# Altium schematic symbol library Reference_Capacitors.SchLib: 1 symbol
Pins are listed as number, name and electrical type; pins without a type are passive.

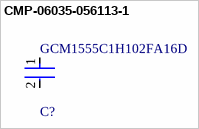
[diagram p0: symbol CMP-06035-056113-1]

## CMP-06035-056113-1
designator C?, comment GCM1555C1H102FA16D
Ceramic Capacitor for Automotive 1nF ±1% 50VDC C0G 0402 Paper T/R; Voltage Rating: 50V; Case Code (Metric): 1005; Packaging: Tape and Reel; Max Operating Temperature: 125°C; Min Operating Temperature: -55°C; Case Code (Imperial): 0402; Mount: Surface Mount; Ratings: AEC-Q200; Capacitance: 1nF; Tolerance: 1%; Case/Package: 0402
footprint FP-GCM155-0_05-IPC_A (Chip Capacitor, 2-Leads, Body 1.00x0.50mm, IPC Medium Density)
pins: 1, 2